# Altium integrated library 0402WGF1201TCE.IntLib: 1 symbol
Pins are listed as number, name and electrical type; pins without a type are passive.

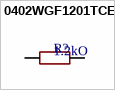
[diagram p0: symbol 0402WGF1201TCE]

## 0402WGF1201TCE
designator R?  value 1.2kO  (hidden comment: 0402WGF1201TCE)
Resistors. -55C~+155C 1.2kohm 50V 62.5mW Thick Film Resistor +/-1% +/-100ppm/C 0402 Chip Resistor - Surface Mount ROHS; Manufacturer: UNI-ROYAL(Uniroyal Elec); Component Type: Resistors; Design Item ID: 0402WGF1201TCE; JLCPCB Part #: C25862; Manufacturer Part Number: 0402WGF1201TCE
footprint 0402WGF1201TCE (R0402)
pins: 1, 2